# Altium schematic symbol library SN74HC125D.SchLib: 1 symbol
Pins are listed as number, name and electrical type; pins without a type are passive.

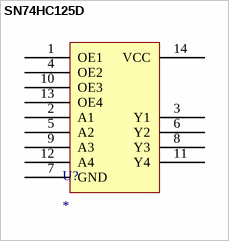
[diagram p0: symbol SN74HC125D]

## SN74HC125D
designator U?
U15
footprint SN74HC125D
pins: 1 OE1, 2 A1, 3 Y1, 4 OE2, 5 A2, 6 Y2, 7 GND, 8 Y3, 9 A3, 10 OE3, 11 Y4, 12 A4, 13 OE4, 14 VCC